# EAGLE library part ADS1115 (library HelaTronix - IC Special Functions)
16-Bit 4 Channels ADC With Internal Reference, Oscillator, and Programmable Comparator. I2C Interface
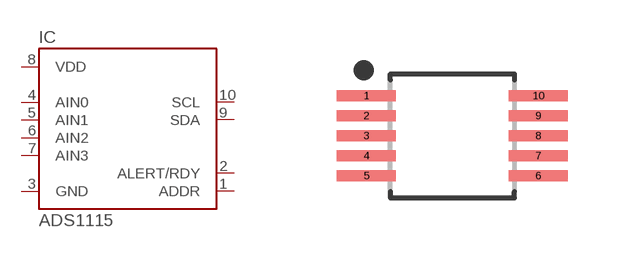
[diagram p6: symbol with the pads of VSSOP50P490X110-10N; footprint VSSOP50P490X110-10N]

Designator prefix IC

## ADS1115 (LCSC#: C37593; LCSC_LINK: https://lcsc.com/product-detail/Analog-To-Digital-Converters-ADCs_Texas-Instruments_ADS1115IDGSR_Texas-Instruments-Texas-Instruments-ADS1115IDGSR_C37593.html; MANUFACTURER: Texas Instruments; MFR#: ADS1115IDGSR)  [VSSOP50P490X110-10N]
1  ADDR
2  ALERT/RDY
3  GND
4  AIN0
5  AIN1
6  AIN2
7  AIN3
8  VDD
9  SDA
10  SCL

## Footprint VSSOP50P490X110-10N (pad centres in mm)
10-SOP, 0.50 mm pitch, 4.90 mm span, 3.00 X 3.00 X 1.10 mm body 10-pin SOP package with 0.50 mm pitch, 4.90 mm span with body size 3.00 X 3.00 X 1.10 mm
smd 1.471 x 0.28: 1 -2.15,1; 2 -2.15,0.5; 3 -2.15,0; 4 -2.15,-0.5; 5 -2.15,-1; 6 2.15,-1; 7 2.15,-0.5; 8 2.15,0; 9 2.15,0.5; 10 2.15,1